# Altium schematic symbol library AD8608.SchLib: 1 symbol
Pins are listed as number, name and electrical type; pins without a type are passive.

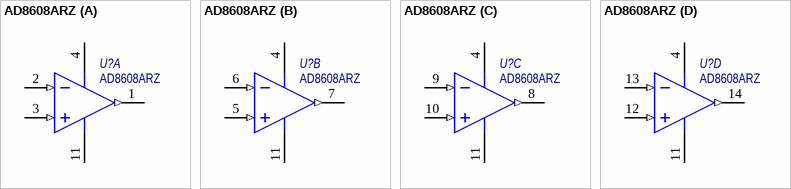
[diagram p0: symbol AD8608ARZ]

## AD8608ARZ
designator U?
Precision, Low Noise, CMOS, Rail-to-Rail, / Input/Output Operational Amplifiers; Потребление, Вт: 0,005; ComponentLink2Description: Datasheet; ComponentLink2URL: https://www.analog.com/media/en/technical-documentation/data-sheets/AD8605_8606_8608.pdf; Назначение: Precision, Low Noise, CMOS, Rail-to-Rail,; Наименование: AD8608ARZ
footprint SOIC-14
part A pins: 1 OUT A (out), 2 -IN A (in), 3 +IN A (in), 4 +V (power), 11 -V (power)
part B pins: 4 +V (power), 5 +IN B (in), 6 -IN B (in), 7 OUT B (out), 11 -V (power)
part C pins: 4 +V (power), 8 OUT C (out), 9 -IN C (in), 10 +IN C (in), 11 -V (power)
part D pins: 4 +V (power), 11 -V (power), 12 +IN D (in), 13 -IN D (in), 14 OUT D (out)